# Altium schematic symbol library QUTMS_IsolatorLibrary.SchLib: 2 symbols
Pins are listed as number, name and electrical type; pins without a type are passive.

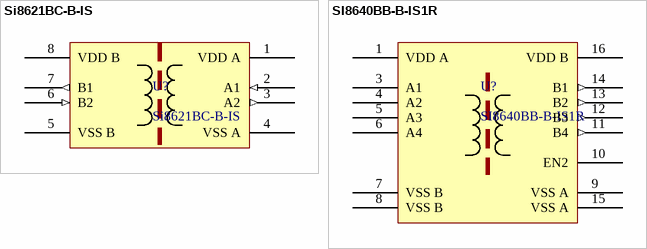
[diagram p0: symbols Si8621BC-B-IS to SI8640BB-B-IS1R]

## Si8621BC-B-IS
designator U?
ComponentLink1Description: Digikey; ComponentLink1URL: https://www.digikey.com.au/product-detail/en/silicon-labs/SI8621BC-B-ISR/336-4774-1-ND/8611005; ComponentLink2Description: Datasheet; ComponentLink2URL: https://www.silabs.com/documents/public/data-sheets/si861x-2x-datasheet.pdf
footprint Si8621BC-B-IS
pins: 1 VDD A, 2 A1 (in), 3 A2 (out), 4 VSS A, 5 VSS B, 6 B2 (in), 7 B1 (out), 8 VDD B

## SI8640BB-B-IS1R
designator U?
ComponentLink1Description: Digikey; ComponentLink1URL: https://www.digikey.com.au/product-detail/en/silicon-labs/SI8621BC-B-ISR/336-4774-1-ND/8611005; ComponentLink2Description: Datasheet; ComponentLink2URL: https://www.silabs.com/documents/public/data-sheets/si861x-2x-datasheet.pdf
footprint SI8640BB-B-IS1R (SOIC, 16-Leads, Body 9.90x3.90mm, Pitch 1.27mm, IPC Medium Density)
pins: 1 VDD A, 3 A1, 4 A2, 5 A3, 6 A4, 7 VSS B, 8 VSS B, 9 VSS A, 10 EN2, 11 B4 (out), 12 B3 (out), 13 B2 (out), 14 B1 (out), 15 VSS A, 16 VDD B